# Altium schematic symbol library DCDC_CONV_Test.SchLib: 14 symbols
Pins are listed as number, name and electrical type; pins without a type are passive.

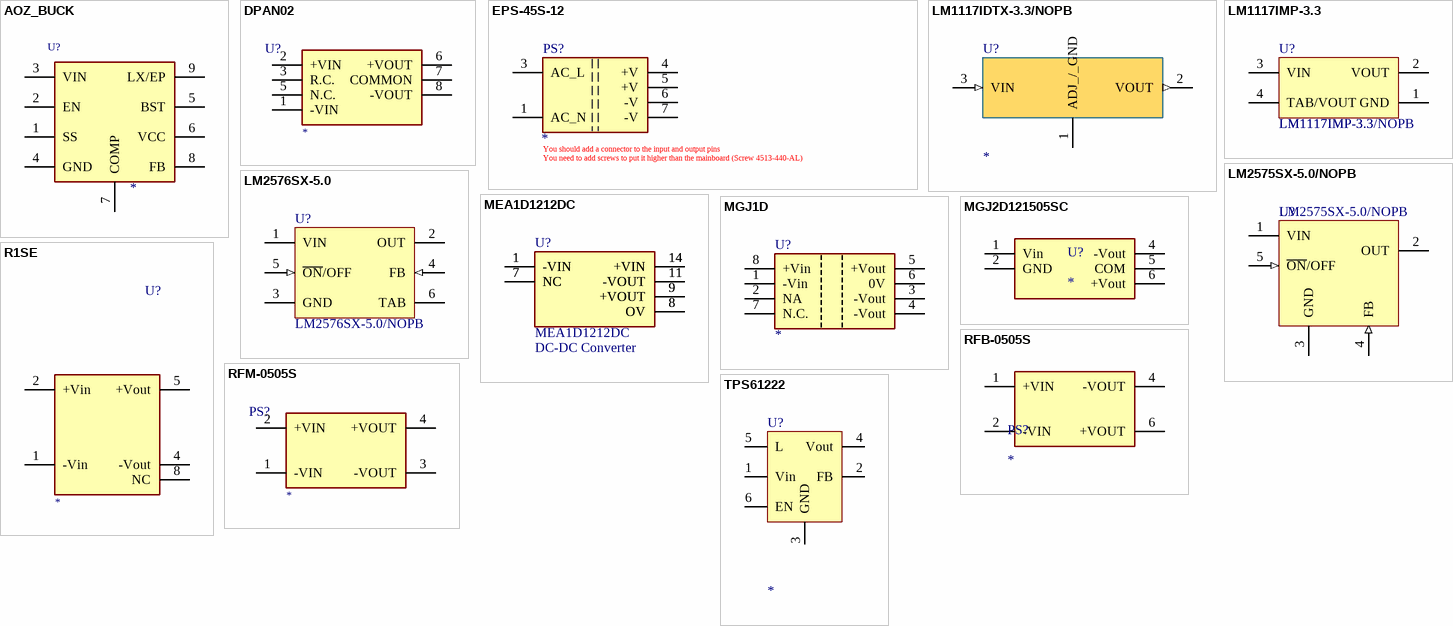
[diagram p0: symbols AOZ_BUCK to TPS61222]

## AOZ_BUCK
designator U?
POWER IC EZ BUCK; Manufacturer Part Number: *
pins: 1 SS, 2 EN, 3 VIN, 4 GND, 5 BST, 6 VCC, 7 COMP, 8 FB, 9 LX/EP

## DPAN02
designator U?, comment DPAN02A-12  (value not drawn)
DC DC CONVERTER +/-12V 2W; Manufacturer Part Number: *
pins: 1 -VIN, 2 +VIN, 3 R.C., 5 N.C., 6 +VOUT, 7 COMMON, 8 -VOUT

## EPS-45S-12
designator PS?
EPS 45W 80-264VAC Input 12VDC Output High Efficiency; Manufacturer Part Number: *
pins: 1 AC_N, 3 AC_L, 4 +V, 5 +V, 6 -V, 7 -V
text: You should add a connector to the input and output pins; You need to add screws to put it higher than the mainboard (Screw 4513-440-AL)

## LM1117IDTX-3.3/NOPB
designator U?
Manufacturer Part Number: *
pins: 1 ADJ_/_GND (power), 2 VOUT (out), 3 VIN (in)

## LM1117IMP-3.3
designator U?  Manufacturer Part Number 1: LM1117IMP-3.3/NOPB
LM1117IMP-3.3/NOPB             Fixed LDO Voltage Regulator, 15V in, 1.2V Dropout, 3.3V/800mA out, SOT-223-3; Manufacturer 1: Texas Instruments; Output Voltage: 3.3V; Number of Outputs: 1; Max Output Current: 800mA; Polarity: Positive; Quiescent Current: 15mA; Accuracy: 1%; Current Rating: 800A; Min Input Voltage: 2.6V; Max Supply Voltage: 10V; Min Supply Voltage: 4.75V; Supplier 1: Digi-Key; Category: Voltage Regulators - Linear; Stock 1: 4598; Pricing 1: 1=1.14000, 10=1.01500, 25=0.96320, 100=0.73960, 250=0.65364, 500=0.61924 (USD); Mount: Surface Mount; Case/Package: SOT-223; Number of Pins: 4; Min Operating Temperature: -40°C; Max Operating Temperature: 125°C; Max Input Voltage: 15V; Output Type: Fixed; Packaging: Tape and Reel; Output Current: 800mA; Dropout Voltage: 1.2V; Nominal Output Voltage: 3.3V; Termination: SMD/SMT; Output Voltage Accuracy: 1%; Number of Regulators: 1; Min Current Limit: 800mA; Package Quantity: 1000; Length: 6.5mm; Height: 1.6mm; Width: 3.56mm; Radiation Hardening: No; REACH SVHC: No SVHC; Lead Free: Lead Free; ComponentLink1URL: https://datasheet.ciiva.com/27051/1281318-27051810.pdf?src-supplier=Jameco; ComponentLink1Description: https://datasheet.ciiva.com/27051/1281318-27051810.pdf?src-supplier=Jameco; ComponentLink2URL: https://datasheet.ciiva.com/8042/1670636-8042261.pdf?src-supplier=Element14; ComponentLink2Description: https://datasheet.ciiva.com/8042/1670636-8042261.pdf?src-supplier=Element14; ComponentLink3URL: https://datasheet.ciiva.com/6580/lm1117-n-6580026.pdf?src-supplier=Digi-Key; ComponentLink3Description: https://datasheet.ciiva.com/6580/lm1117-n-6580026.pdf?src-supplier=Digi-Key; ComponentLink4URL: https://datasheet.ciiva.com/46386/1882372-46386042.pdf?src-supplier=Element14; ComponentLink4Description: https://datasheet.ciiva.com/46386/1882372-46386042.pdf?src-supplier=Element14; ComponentLink5URL: https://datasheet.ciiva.com/1570/1849796-1570171.pdf?src-supplier=Farnell; ComponentLink5Description: https://datasheet.ciiva.com/1570/1849796-1570171.pdf?src-supplier=Farnell; ComponentLink6URL: https://datasheet.ciiva.com/3223/lm1117-n-3223515.pdf?src-supplier=Avnet; ComponentLink6Description: https://datasheet.ciiva.com/3223/lm1117-n-3223515.pdf?src-supplier=Avnet; ComponentLink7URL: https://datasheet.ciiva.com/14149/lm1117-eng-tds-14149980.pdf?src-supplier=Distrelec; ComponentLink7Description: https://datasheet.ciiva.com/14149/lm1117-eng-tds-14149980.pdf?src-supplier=Distrelec; ComponentLink8URL: https://datasheet.ciiva.com/6580/lm1117-n-6580030.pdf?src-supplier=Digi-Key; ComponentLink8Description: https://datasheet.ciiva.com/6580/lm1117-n-6580030.pdf?src-supplier=Digi-Key; RoHS: Yes; Supplier Part Number 1: LM1117IMP-3.3/NOPBCT-ND
footprint SOT223_M (SOT223, 4-Leads, Body 6.5x3.5mm, Pitch 2.3mm, Lead Span 7mm, IPC Low Density)
pins: 1 GND (power), 2 VOUT (power), 3 VIN (power), 4 TAB/VOUT (power)

## LM2575SX-5.0/NOPB
designator U?, comment Manufacturer Part Number 1: LM2575SX-5.0/NOPB  (hidden comment: LM2576SX-5.0)
IC-2575 V.REG.1A SURFACE MOUNT SMD TO263 TI Step Down Voltage Regulator; Manufacturer 1: TI National Semiconductor; Output Voltage: 5V; Switching Frequency: 58kHz; Output Current: 3A; Number of Outputs: 1; Min Input Voltage: 4V; Max Input Voltage: 40V; Efficiency: 77%; Synchronous Rectifier: No; Quiescent Current: 5mA; Output Type: Fixed; Supplier 1: Digi-Key; RoHS: Yes; Category: Power Supply Modules; Stock 1: 25134; Pricing 1: 1=2.86000, 10=2.56700, 25=2.42640, 100=1.99510, 250=1.79016 (USD); Mount: Surface Mount; Case/Package: TO-263-5; Number of Pins: 5; Contact Plating: Tin; Min Operating Temperature: -40°C; Max Operating Temperature: 125°C; Packaging: Tape and Reel; Max Output Current: 3A; Operating Supply Voltage: 40V; Package Quantity: 500; Nominal Output Voltage: 5V; Radiation Hardening: No; Lead Free: Contains Lead; REACH SVHC: No SVHC; ComponentLink1URL: https://datasheet.ciiva.com/41457/001013741-da-01-en-ic-reg-bu-lm2576sx-5-0-nopb-to-263-5-tid-41457614.pdf?src-supplier=Conrad; ComponentLink1Description: https://datasheet.ciiva.com/41457/001013741-da-01-en-ic-reg-bu-lm2576sx-5-0-nopb-to-263-5-tid-41457614.pdf?src-supplier=Conrad; Supplier Part Number 1: LM2575SX-5.0/NOPBCT-ND
footprint TS5B_N (D2-PAK, 6-Leads, Body 8.6x10.2mm, Pitch 1.7mm, Lead Span 14.1mm, IPC Medium Density)
pins: 1 VIN (power), 2 OUT (power), 3 GND (power), 4 FB (in), 5 ~{ON}/OFF (in)

## LM2576SX-5.0
designator U?  Manufacturer Part Number 1: LM2576SX-5.0/NOPB  (hidden comment: LM2576SX-5.0)
Conv DC-DC Single Non-Inv/Inv/Step Up/Step Down 4V to 40V 6-Pin(5+Tab) TO-263 T/R; Manufacturer 1: TI National Semiconductor; Output Voltage: 5V; Switching Frequency: 58kHz; Output Current: 3A; Number of Outputs: 1; Efficiency: 77%; Synchronous Rectifier: No; Quiescent Current: 5mA; Output Type: Fixed; Supplier 1: Digi-Key; RoHS: Yes; Category: Power Supply Modules; Stock 1: 25134; Pricing 1: 1=2.86000, 10=2.56700, 25=2.42640, 100=1.99510, 250=1.79016 (USD); Mount: Surface Mount; Case/Package: TO-263-5; Number of Pins: 5; Contact Plating: Tin; Min Operating Temperature: -40°C; Max Operating Temperature: 125°C; Packaging: Tape and Reel; Min Input Voltage: 4V; Max Output Current: 3A; Max Input Voltage: 40V; Operating Supply Voltage: 40V; Package Quantity: 500; Nominal Output Voltage: 5V; Radiation Hardening: No; Lead Free: Contains Lead; REACH SVHC: No SVHC; ComponentLink1URL: https://datasheet.ciiva.com/41457/001013741-da-01-en-ic-reg-bu-lm2576sx-5-0-nopb-to-263-5-tid-41457614.pdf?src-supplier=Conrad; ComponentLink1Description: https://datasheet.ciiva.com/41457/001013741-da-01-en-ic-reg-bu-lm2576sx-5-0-nopb-to-263-5-tid-41457614.pdf?src-supplier=Conrad; Supplier Part Number 1: LM2576SX-5.0/NOPBCT-ND
footprint TS5B_N (D2-PAK, 6-Leads, Body 8.6x10.2mm, Pitch 1.7mm, Lead Span 14.1mm, IPC Medium Density)
pins: 1 VIN (power), 2 OUT (power), 3 GND (power), 4 FB (in), 5 ~{ON}/OFF (in), 6 TAB (power)

## MEA1D1212DC
designator U?, comment DC-DC Converter  Manufacturer Part Number 1: MEA1D1212DC
DC/DC CONVERTER +/-12V 1W; Manufacturer 1: Murata; Number of Outputs: 2; Min Input Voltage: 10.8V; Efficiency: 89%; Max Input Voltage: 13.2V; Nominal Output Voltage: -12V; Max Output Current: 42mA; Nominal Input Voltage: 12V; Isolation Voltage: 1kV; Supplier 1: Digi-Key; RoHS: Yes; Category: Board Mount Modules; Stock 1: 35; Pricing 1: 1=5.45000, 5=5.42000, 10=5.38000, 25=5.32000, 50=5.19000, 100=4.93000, 250=4.62000, 500=4.31002, 1000=4.03002 (USD); Mount: Through Hole; Case/Package: DIP; Number of Pins: 6; Weight: 2.8g; Min Operating Temperature: -40°C; Max Operating Temperature: 85°C; Output Power: 1W; Packaging: Rail/Tube; Package Quantity: 25; Min Input Voltage (DC): 10.8V; Max Input Voltage (DC): 13.2V; Output Voltage: 12V; Output Current: 42mA; Voltage - Output 1: 12V; Voltage - Output 2: -12V; Current - Output 1: 42mA; Current - Output 2: 42mA; Max Output Power: 1W; Max Power Dissipation: 1W; Length: 0.78inch; Height: 0.28inch; Width: 0.39inch; Depth: 7mm; Radiation Hardening: No; REACH SVHC: No SVHC; ComponentLink1URL: https://datasheet.ciiva.com/2369/kdc-mea-2369906.pdf?src-supplier=Digi-Key; ComponentLink1Description: https://datasheet.ciiva.com/2369/kdc-mea-2369906.pdf?src-supplier=Digi-Key; Supplier Part Number 1: 811-2217-5-ND
footprint DC/DC Converter (+12V/-12V)
pins: 1 -VIN, 1 -VIN, 7 NC, 7 NC, 8 OV, 8 OV, 9 +VOUT, 9 +VOUT, 11 -VOUT, 11 -VOUT, 14 +VIN, 14 +VIN

## MGJ1D
designator U?
Isolated Module DC DC Converter 2 Output 15V -5V 50mA, 50mA 21.6V - 26.4V Input; Manufacturer Part Number: *
pins: 1 -Vin, 2 NA, 3 -Vout, 4 -Vout, 5 +Vout, 6 0V, 7 N.C., 8 +Vin

## MGJ2D121505SC
designator U?
DC DC CONVERTER 15V -5V 2W; Supplier 1: Digi-Key; Supplier Part Number 1: 811-3001-5-ND
pins: 1 Vin, 2 GND, 4 -Vout, 5 COM, 6 +Vout

## R1SE
designator U?
R1SE SERIES DC DC CONVERTER; Manufacturer Part Number: *
pins: 1 -Vin, 2 +Vin, 4 -Vout, 5 +Vout, 8 NC

## RFB-0505S
designator PS?
DC/DC CONV 1W 5VDC 5VDC 200mA SIP7
pins: 1 +VIN, 2 -VIN, 4 -VOUT, 6 +VOUT

## RFM-0505S
designator PS?
DC DC CONVERTER 5V 1W; Manufacturer part Number: *
pins: 1 -VIN, 2 +VIN, 3 -VOUT, 4 +VOUT

## TPS61222
designator U?
0.7-VIN, 5-V fixed output voltage boost converter with 5.5-μA quiescent current; Manufacturer Part Number: *
simulation model TPS61222_TRANS (Model Description)
pins: 1 Vin, 2 FB, 3 GND, 4 Vout, 5 L, 6 EN